# EAGLE library part PA0914NL (library inductor-neosid)
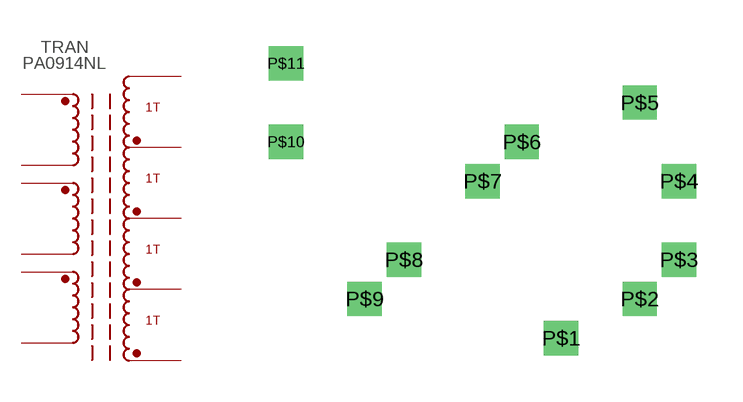
[diagram p23: symbol with the pads of PA0914NL; footprint PA0914NL]

Designator prefix TRAN

## PA0914NL  [PA0914NL]
P$1  1
P$2  2
P$3  3
P$4  4
P$5  5
P$6  6
P$7  7
P$8  8
P$9  9
P$10  10
P$11  11

## Footprint PA0914NL (pad centres in mm)
drill 0.6 square: P$1 -1.27,-1.27; P$2 1.27,0; P$3 2.54,1.27; P$4 2.54,3.81; P$5 1.27,6.35; P$6 -2.54,5.08; P$7 -3.81,3.81; P$8 -6.35,1.27; P$9 -7.62,0; P$10 -10.16,5.08; P$11 -10.16,7.62